# Altium footprint library B82464G4333M.PCBLIB: 1 footprints
Each footprint in its own frame and in the unit in brackets; x right, y up, seen from the top. Pads: shape width x height; smd on the part's side, far side on the other; paste and mask are expansions set on the pad; w line width, h text height; cw(c..) or ccw(c..) is an arc to the next point about the centre after c.
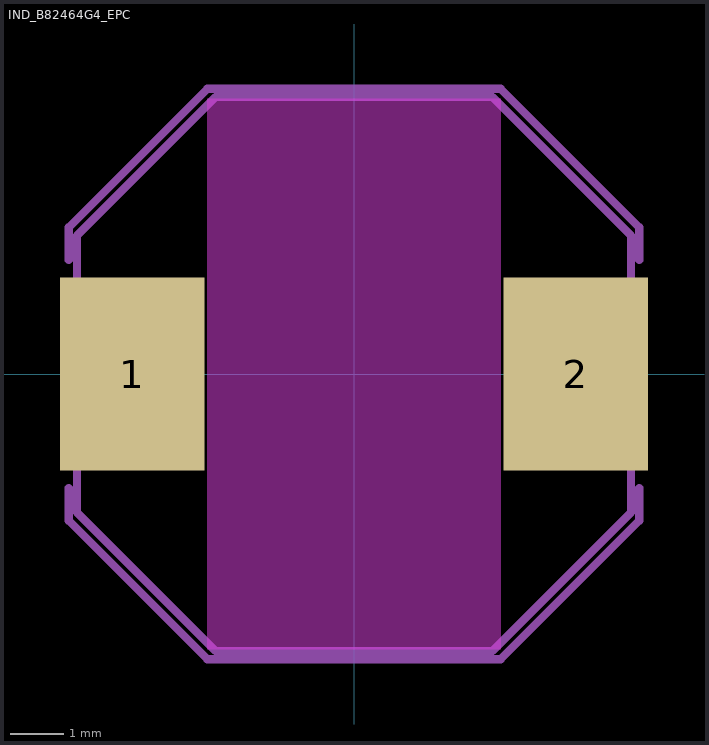
[diagram p0: the footprint, top view; thin cyan lines are the x and y axes]

## IND_B82464G4_EPC [mil]
pads (2):
  rect 106.5x142 smd: 1(-163.25,0) 2(163.25,0)
Top keep-out:
  region: -108,202.5 108,202.5 108,-202.5 -108,-202.5
tDocu:
  lines w6: -204,-102 -102,-204 102,-204 204,-102 204,102 102,204 -102,204 -204,102 -204,-102
tPlace:
  lines w6: -210,-84 -210,-108 -108,-210 108,-210 210,-108 210,-84 ; -210,84 -210,108 -108,210 108,210 210,108 210,84